# Altium footprint library SOT-23 (TO-236).PcbLib: 1 footprints
Each footprint in its own frame and in the unit in brackets; x right, y up, seen from the top. Pads: shape width x height; smd on the part's side, far side on the other; paste and mask are expansions set on the pad; w line width, h text height; cw(c..) or ccw(c..) is an arc to the next point about the centre after c.
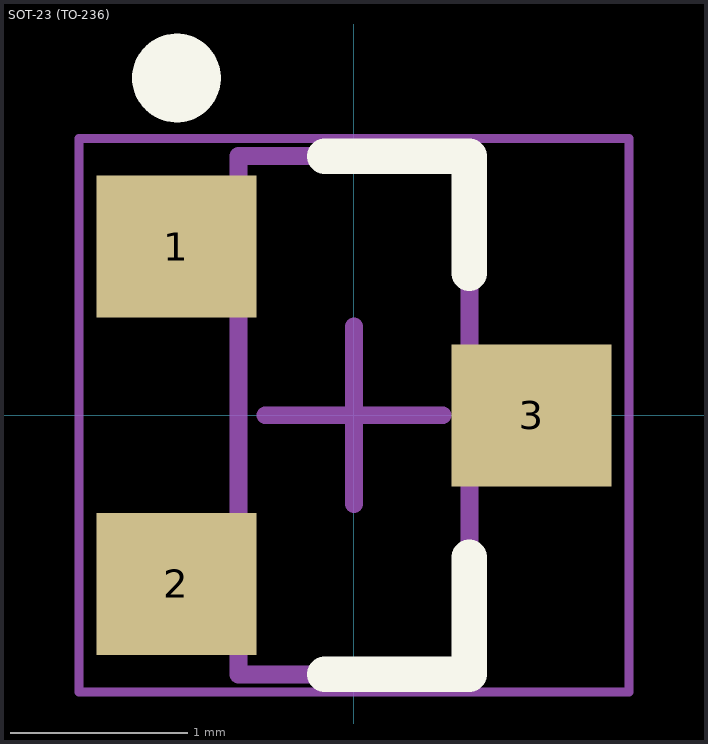
[diagram p0: the footprint, top view; thin cyan lines are the x and y axes]

## SOT-23 (TO-236) [mm]
pads (3):
  rect 0.9x0.8 smd: 1(-1,0.95) 2(-1,-0.95) 3(1,0)
Top Overlay:
  circle w0.25: c-1,1.9 r0.125
  lines w0.2: -0.165,-1.46 0.65,-1.46 0.65,-0.8 ; -0.165,1.46 0.65,1.46 0.65,0.8
Mechanical 13:
  lines w0.1: -0.65,-1.46 0.65,-1.46 0.65,1.46 -0.65,1.46 -0.65,-1.46
Mechanical 15:
  lines w0.05: -1.55,-1.56 1.55,-1.56 1.55,1.56 -1.55,1.56 -1.55,-1.56
  lines w0.1: -0.5,0 0.5,0 ; 0,-0.5 0,0.5
3D body: height 1.11, standoff 0.01, extent -0.65,-1.46 0.65,1.46